# EAGLE library part MP6500 (library spietz-library-2)
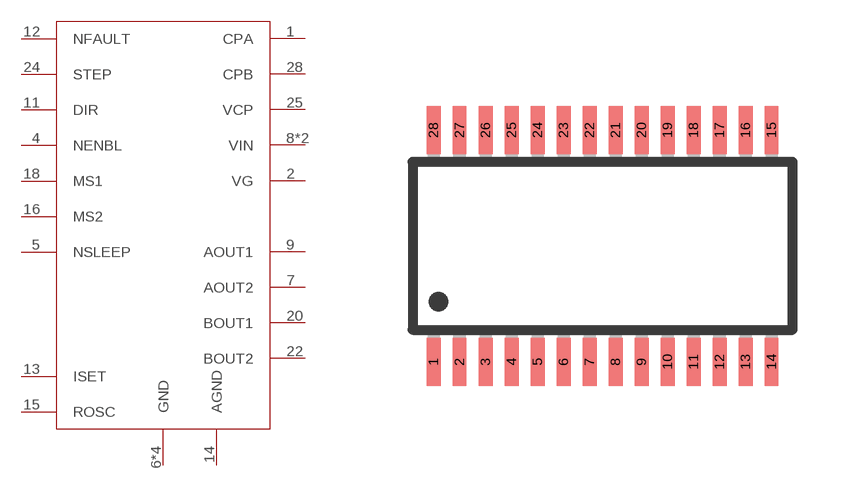
[diagram p23: symbol with the pads of TSSOP28; footprint TSSOP28]

Designator prefix -

## MP6500MP6500  [TSSOP28]
1  CPA
2  VG
4  NENBL
5  NSLEEP
6  GND
7  AOUT2
8  VIN
9  AOUT1
10  GND
11  DIR
12  NFAULT
13  ISET
14  AGND
15  ROSC
16  MS2
18  MS1
19  GND
20  BOUT1
21  VIN
22  BOUT2
23  GND
24  STEP
25  VCP
28  CPB

## Footprint TSSOP28 (pad centres in mm)
28-Lead TSSOP Package RU-28
smd 0.35 x 1.2: 1 -4.225,-2.9; 2 -3.575,-2.9; 3 -2.925,-2.9; 4 -2.275,-2.9; 5 -1.625,-2.9; 6 -0.975,-2.9; 7 -0.325,-2.9; 8 0.325,-2.9; 9 0.975,-2.9; 10 1.625,-2.9; 11 2.275,-2.9; 12 2.925,-2.9; 13 3.575,-2.9; 14 4.225,-2.9; 15 4.225,2.9; 16 3.575,2.9; 17 2.925,2.9; 18 2.275,2.9; 19 1.625,2.9; 20 0.975,2.9; 21 0.325,2.9; 22 -0.325,2.9; 23 -0.975,2.9; 24 -1.625,2.9; 25 -2.275,2.9; 26 -2.925,2.9; 27 -3.575,2.9; 28 -4.225,2.9